# Altium footprint library clock.PcbLib: 69 footprints (part 1 of 5)
Each footprint in its own frame and in the unit in brackets; x right, y up, seen from the top. Pads: shape width x height; smd on the part's side, far side on the other; paste and mask are expansions set on the pad; w line width, h text height; cw(c..) or ccw(c..) is an arc to the next point about the centre after c.
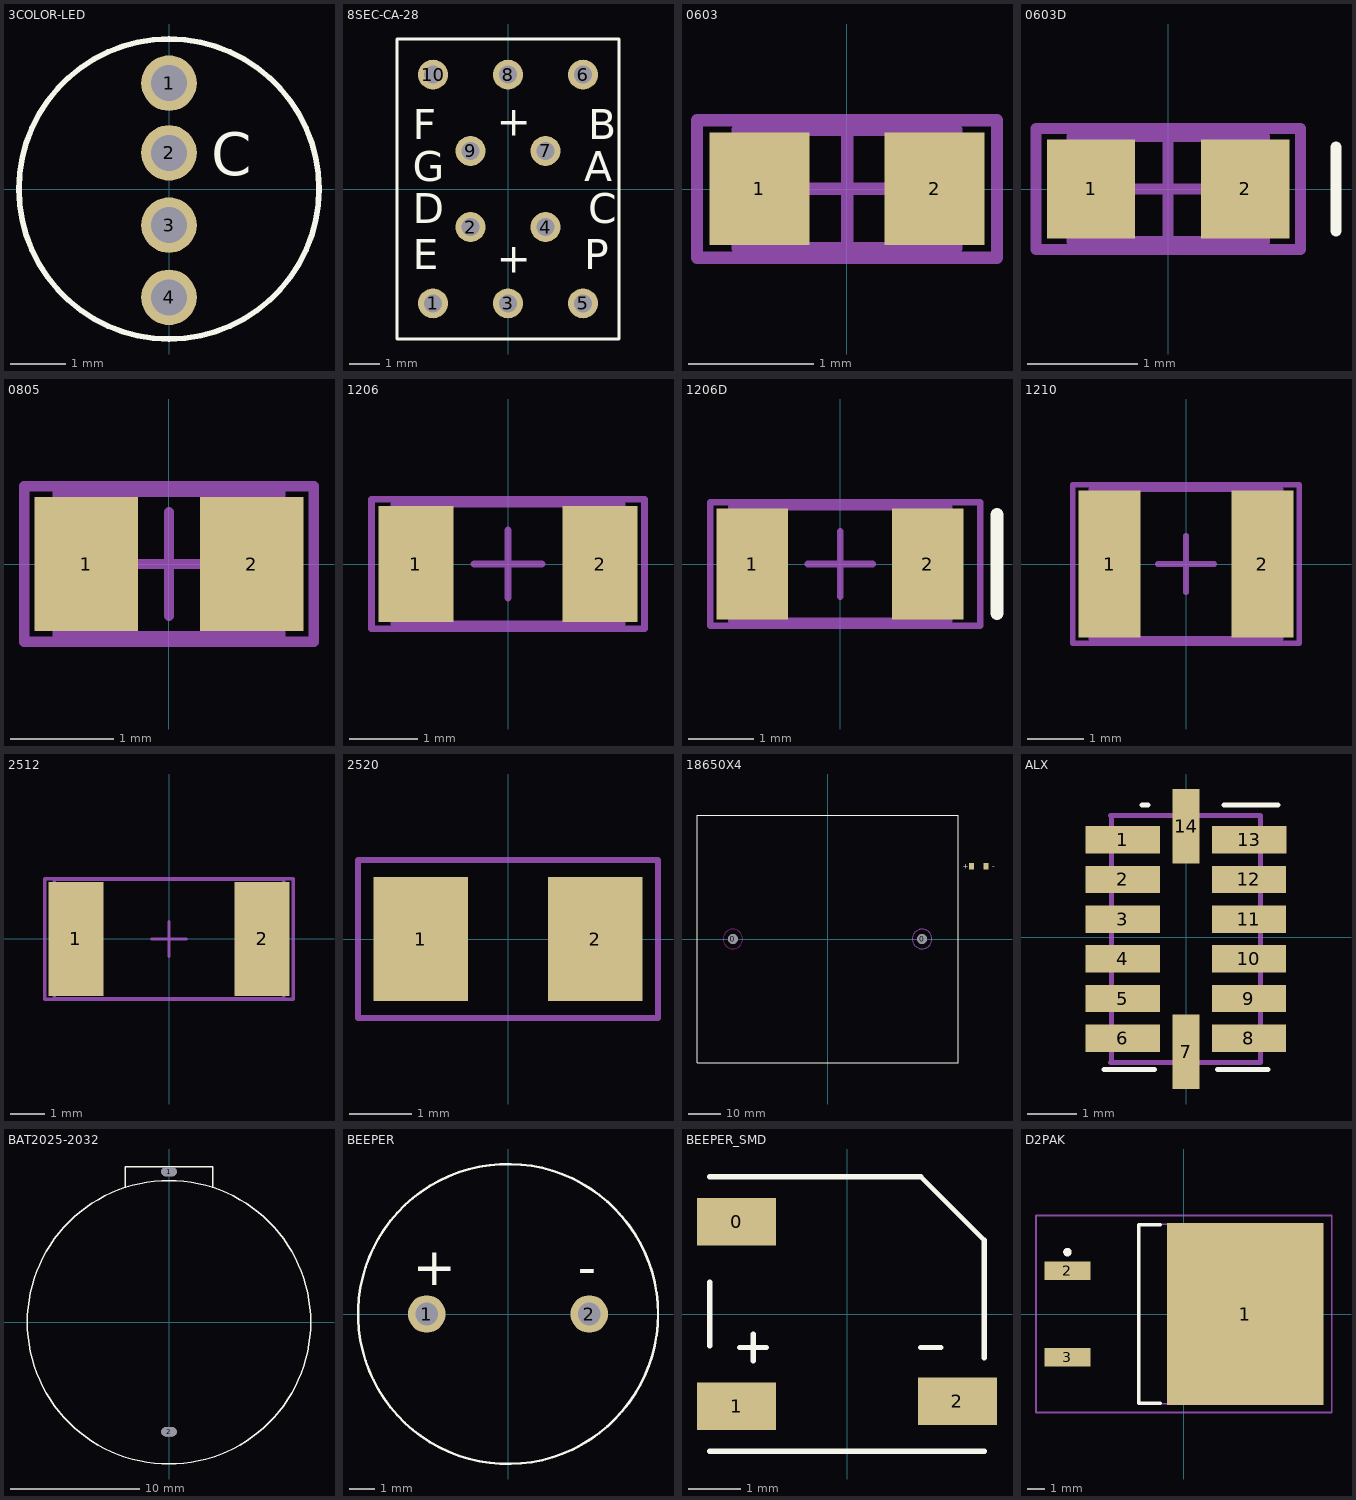
[diagram p0: the footprints below, top view; thin cyan lines are the x and y axes]

## 3COLOR-LED [mm]
pads (4):
  round 1 hole 0.65: 1(0,1.905) 2(0,0.65) 3(0,-0.65) 4(0,-1.95)
Top Overlay:
  circle w0.1: c0,0 r2.7
  text "C" at 0.762,0 h1.3
3D body: height 2, standoff 0, extent -2.732,-2.7 2.668,2.7

## 8SEC-CA-28 [mm]
pads (10):
  round 1 hole 0.6: 1(-2.5,-3.81) 2(-1.25,-1.27) 3(0,-3.81) 4(1.25,-1.27) 5(2.5,-3.81) 6(2.5,3.81) 7(1.25,1.27) 8(0,3.81) 9(-1.25,1.27) 10(-2.5,3.81)
Top Overlay:
  lines w0.1: -3.7,-5 3.7,-5 3.7,5 -3.7,5 -3.7,-5
  text "P" at 2.54,-2.667 h1
  text "E" at -3.175,-2.667 h1
  text "+" at -0.381,-2.794 h1
  text "+" at -0.381,1.778 h1
  text "F" at -3.175,1.651 h1
  text "B" at 2.667,1.651 h1
  text "A" at 2.54,0.254 h1
  text "C" at 2.667,-1.143 h1
  text "G" at -3.175,0.254 h1
  text "D" at -3.175,-1.143 h1
3D body: height 6, standoff 0, extent -3.683,-4.953 3.683,4.953

## 0603 [mm] "Chip Capacitor, Body 1.6x0.8mm, IPC High Density"
height 1.3
pads (2):
  rect 0.8x0.9 smd: 1(-0.7,0) 2(0.7,0)
Mechanical 13:
  lines w0.1: -0.875,-0.475 0.875,-0.475 0.875,0.475 -0.875,0.475 -0.875,-0.475
Mechanical 15:
  lines w0.1: -0.475,0 0.475,0 ; 0,-0.475 0,0.475 ; -1.2,-0.55 1.2,-0.55 1.2,0.55 -1.2,0.55 -1.2,-0.55
3D body: height 1.3, standoff 0, extent -0.875,-0.475 0.875,0.475

## 0603D [mm] "Chip Capacitor, Body 1.6x0.8mm, IPC High Density"
height 1.3
pads (2):
  rect 0.8x0.9 smd: 1(-0.7,0) 2(0.7,0)
Top Overlay:
  lines w0.1: 1.524,-0.381 1.524,0.381
Mechanical 13:
  lines w0.1: -0.875,-0.475 -0.875,0.475 0.875,0.475 0.875,-0.475 -0.875,-0.475
Mechanical 15:
  lines w0.1: -0.475,0 0.475,0 ; 0,-0.475 0,0.475 ; -1.2,-0.55 -1.2,0.55 1.2,0.55 1.2,-0.55 -1.2,-0.55
3D body: height 1.3, standoff 0, extent -0.875,-0.475 0.875,0.475

## 0805 [mm] "Chip Resistor, Body 2.0x1.3mm, IPC High Density"
height 0.65
pads (2):
  rect 1x1.3 smd: 1(-0.8,0) 2(0.8,0)
Mechanical 13:
  lines w0.1: -1.075,-0.7 1.075,-0.7 1.075,0.7 -1.075,0.7 -1.075,-0.7
Mechanical 15:
  lines w0.1: -0.5,0 0.5,0 ; 0,-0.5 0,0.5 ; -1.4,-0.75 1.4,-0.75 1.4,0.75 -1.4,0.75 -1.4,-0.75
3D body: height 0.65, standoff 0, extent -1.075,-0.7 1.075,0.7

## 1206 [mm] "Chip Resistor, Body 3.2x1.6mm, IPC High Density"
height 0.71
pads (2):
  rect 1.1x1.7 smd: 1(-1.35,0) 2(1.35,0)
Mechanical 13:
  lines w0.1: -1.675,-0.875 -1.675,0.875 1.675,0.875 1.675,-0.875 -1.675,-0.875
Mechanical 15:
  lines w0.1: -0.5,0 0.5,0 ; 0,-0.5 0,0.5 ; -2,-0.95 -2,0.95 2,0.95 2,-0.95 -2,-0.95
3D body: height 0.71, standoff 0, extent -1.675,-0.875 1.675,0.875

## 1206D [mm] "Chip Resistor, Body 3.2x1.6mm, IPC High Density"
height 0.71
pads (2):
  rect 1.1x1.7 smd: 1(-1.35,0) 2(1.35,0)
Top Overlay:
  lines w0.2: 2.413,-0.762 2.413,0.762
Mechanical 13:
  lines w0.1: -1.675,-0.875 1.675,-0.875 1.675,0.875 -1.675,0.875 -1.675,-0.875
Mechanical 15:
  lines w0.1: -0.5,0 0.5,0 ; 0,-0.5 0,0.5 ; -2,-0.95 2.159,-0.95 2.159,0.95 -2,0.95 -2,-0.95
3D body: height 0.71, standoff 0, extent -1.675,-0.875 1.675,0.875

## 1210 [mm] "Chip Resistor, Body 3.2x2.5mm, IPC High Density"
height 0.71
pads (2):
  rect 1.1x2.6 smd: 1(-1.35,0) 2(1.35,0)
Mechanical 13:
  lines w0.1: -1.675,-1.32 -1.675,1.32 1.675,1.32 1.675,-1.32 -1.675,-1.32
Mechanical 15:
  lines w0.1: -0.5,0 0.5,0 ; 0,-0.5 0,0.5 ; -2,-1.4 -2,1.4 2,1.4 2,-1.4 -2,-1.4
3D body: height 0.71, standoff 0, extent -1.675,-1.32 1.675,1.32

## 2512 [mm] "Chip Resistor, Body 6.4x3.2mm, IPC High Density"
height 1.1
pads (2):
  rect 1.6x3.3 smd: 1(-2.7,0) 2(2.7,0)
Mechanical 13:
  lines w0.1: -3.325,-1.725 -3.325,1.725 3.325,1.725 3.325,-1.725 -3.325,-1.725
Mechanical 15:
  lines w0.1: -0.5,0 0.5,0 ; 0,-0.5 0,0.5 ; -3.6,-1.75 -3.6,1.75 3.6,1.75 3.6,-1.75 -3.6,-1.75
3D body: height 1.1, standoff 0, extent -3.325,-1.725 3.325,1.725

## 2520 [mm]
pads (2):
  rect 1.52x2 smd: 1(-1.4,0) 2(1.4,0)
Mechanical 13:
  lines w0.1: -2.413,-1.27 -2.413,1.27 2.413,1.27 2.413,-1.27 -2.413,-1.27
3D body: height 2, standoff 0, extent -2.032,-1.016 2.032,1.016

## 18650X4 [mm]
pads (4):
  round 3 hole 3: 0(-29,0) 0(29,0)
  rect 1.524x2 smd: 1(44.196,22.225) 2(48.514,22.225)
Top Overlay:
  lines w0.1: -40,-38 40,-38 40,38 -40,38 -40,-38
  text "-" at 50.419,21.463 h1.52
  text "+" at 41.402,21.463 h1.52
Keep-Out Layer:
  circle w0.254: c-29,0 r3
Mechanical 13:
  circle w0.254: c29,0 r3

## ALX [mm]
pads (14):
  rect 1.5x0.55 smd: 1(-1.275,1.968) 2(-1.275,1.168) 3(-1.275,0.368) 4(-1.275,-0.432) 5(-1.275,-1.232) 6(-1.275,-2.032) 8(1.27,-2.032) 9(1.27,-1.232) 10(1.27,-0.432) 11(1.27,0.368) 12(1.27,1.168) 13(1.275,1.968)
  rect 0.55x1.5 smd: 7(0,-2.307) 14(0,2.243)
Top Overlay:
  lines w0.1: -1.651,-2.667 -0.635,-2.667 ; -0.889,2.667 -0.762,2.667 ; 0.635,-2.667 1.651,-2.667 ; 0.762,2.667 1.854,2.667
Mechanical 13:
  lines w0.1: -1.524,-2.522 1.5,-2.522 1.5,2.458 -1.524,2.458 ; -1.5,-2.522 -1.5,2.458
3D body: height 2, standoff 0, extent -1.524,-2.522 1.5,2.458

## BAT2025-2032 [mm]
pads (2):
  oval 1.2x0.7 hole 0.7 slot 1.2 at 0 deg: 1(0,11.684) 2(0,-8.5)
Top Overlay:
  circle w0.1: c0,0 r11
  lines w0.1: -3.4,10.443 -3.4,12.065 3.4,12.065 3.4,10.443

## BEEPER [mm]
pads (2):
  round 1.5 hole 0.9: 1(-3.25,0) 2(3.25,0)
Top Overlay:
  circle w0.1: c0,0 r6
  text "+" at -3.81,1.143 h1.52
  text "-" at 2.794,1.143 h1.52

## BEEPER_SMD [mm]
pads (3):
  rect 1.5x0.9 smd: 0(-2.092,1.75) 1(-2.092,-1.75) 2(2.092,-1.651)
Top Overlay:
  lines w0.1: -2.6,-2.6 2.6,-2.6 ; -2.6,-0.6 -2.6,0.6 ; -2.6,2.6 1.397,2.6 2.6,1.397 2.6,-0.829 ; -2.032,-0.635 -1.524,-0.635 ; -1.778,-0.889 -1.778,-0.381 ; 1.397,-0.635 1.778,-0.635

## D2PAK [mm] "D2-PAK, 4-Leads, Body 8.8x10.4mm, Pitch 2.54mm, Lead Span 15.1mm, IPC Low Density"
height 4.69
pads (3):
  rect 9.2x10.7 smd: 1(3.6,0)
  rect 2.7x1.1 smd: 2(-6.85,2.54) 3(-6.85,-2.54)
Top Overlay:
  circle w0.25: c-6.85,3.64 r0.125
  lines w0.2: -1.4,-5.25 -2.65,-5.25 -2.65,5.25 -1.4,5.25
Mechanical 13:
  lines w0.1: -2.65,-5.275 6.35,-5.275 6.35,5.275 -2.65,5.275 -2.65,-5.275
Mechanical 15:
  lines w0.1: -0.5,0 0.5,0 ; 0,-0.5 0,0.5 ; -8.7,-5.8 8.7,-5.8 8.7,5.8 -8.7,5.8 -8.7,-5.8
3D body: height 4.69, standoff 0, extent -2.65,-5.275 6.35,5.275